# Altium schematic symbol library iot_watch.SchLib: 9 symbols
Pins are listed as number, name and electrical type; pins without a type are passive.

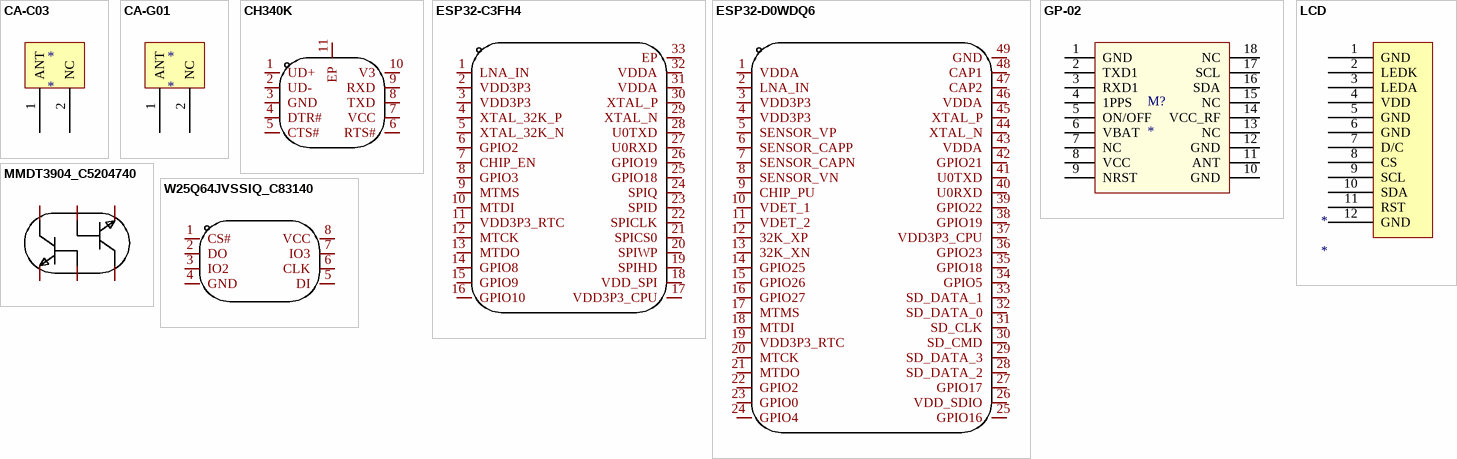
[diagram p0: symbols CA-C03 to W25Q64JVSSIQ_C83140]

## CA-C03
designator *
footprint CA-C03
pins: 1 ANT, 2 NC

## CA-G01
designator *
footprint CA-G01
pins: 1 ANT, 2 NC

## CH340K
designator U?  (value not drawn)
Manufacturer: WCH(南京沁恒); Add into BOM: yes; Name: CH340K; Symbol: CH340K; Device: CH340K; LCSC Part Name: CH340K; Supplier Part: C968586; Manufacturer Part: CH340K; Supplier Footprint: ESOP-10-EP-150mil; JLCPCB Part Class: Extended Part; Datasheet: https://atta.szlcsc.com/upload/public/pdf/source/20200819/C84681_ADBED554CE321879DBD6B1D06488689C.pdf; Supplier: LCSC; Convert to PCB: yes; Applications Function: -; Protocol: -
footprint ESOP-10_L4.9-W3.9-P1.00-LS6.2-BL-EP
3D model ESOP-10_L4.9-W3.9-H1.4-P1.00-LS6.2-BL-EP
pins: 1 UD+, 2 UD-, 3 GND, 4 DTR#, 5 CTS#, 6 RTS#, 7 VCC, 8 TXD, 9 RXD, 10 V3, 11 EP

## ESP32-C3FH4
designator U?  (value not drawn)
Manufacturer: ESPRESSIF(乐鑫); Add into BOM: yes; Name: ESP32-C3FH4; Symbol: ESP32-C3FH4; Device: ESP32-C3FH4; LCSC Part Name: ESP32-C3FH4; Supplier Part: C2858491; Manufacturer Part: ESP32-C3FH4; Supplier Footprint: QFN-32; JLCPCB Part Class: Extended Part; Datasheet: https://atta.szlcsc.com/upload/public/pdf/source/20210726/B8823F05EB5B1ECA99D4F01661A43FA8.pdf; Supplier: LCSC; Convert to PCB: yes
footprint QFN-32_L5.0-W5.0-P0.50-TL-EP3.7
3D model QFN-32_L5.0-W5.0-H0.9-P0.50-TL-EP3.7
pins: 1 LNA_IN, 2 VDD3P3, 3 VDD3P3, 4 XTAL_32K_P, 5 XTAL_32K_N, 6 GPIO2, 7 CHIP_EN, 8 GPIO3, 9 MTMS, 10 MTDI, 11 VDD3P3_RTC, 12 MTCK, 13 MTDO, 14 GPIO8, 15 GPIO9, 16 GPIO10, 17 VDD3P3_CPU, 18 VDD_SPI, 19 SPIHD, 20 SPIWP, 21 SPICS0, 22 SPICLK, 23 SPID, 24 SPIQ, 25 GPIO18, 26 GPIO19, 27 U0RXD, 28 U0TXD, 29 XTAL_N, 30 XTAL_P, 31 VDDA, 32 VDDA, 33 EP

## ESP32-D0WDQ6
designator U?  (value not drawn)
Manufacturer: ESPRESSIF(乐鑫); Add into BOM: yes; Name: ESP32-D0WDQ6; Symbol: ESP32-D0WDQ6; Device: ESP32-D0WDQ6; LCSC Part Name: ESP32-D0WDQ6; Supplier Part: C129733; Manufacturer Part: ESP32-D0WDQ6; Supplier Footprint: QFN-48-EP(6x6); JLCPCB Part Class: Extended Part; Datasheet: https://atta.szlcsc.com/upload/public/pdf/source/20180207/C129733_15179947908541359020.pdf; Supplier: LCSC; Convert to PCB: yes
footprint QFN-48_L6.0-W6.0-P0.40-BL-EP3.8
3D model QFN-48_L6.0-W6.0-P0.40-BL-EP3.8
pins: 1 VDDA, 2 LNA_IN, 3 VDD3P3, 4 VDD3P3, 5 SENSOR_VP, 6 SENSOR_CAPP, 7 SENSOR_CAPN, 8 SENSOR_VN, 9 CHIP_PU, 10 VDET_1, 11 VDET_2, 12 32K_XP, 13 32K_XN, 14 GPIO25, 15 GPIO26, 16 GPIO27, 17 MTMS, 18 MTDI, 19 VDD3P3_RTC, 20 MTCK, 21 MTDO, 22 GPIO2, 23 GPIO0, 24 GPIO4, 25 GPIO16, 26 VDD_SDIO, 27 GPIO17, 28 SD_DATA_2, 29 SD_DATA_3, 30 SD_CMD, 31 SD_CLK, 32 SD_DATA_0, 33 SD_DATA_1, 34 GPIO5, 35 GPIO18, 36 GPIO23, 37 VDD3P3_CPU, 38 GPIO19, 39 GPIO22, 40 U0RXD, 41 U0TXD, 42 GPIO21, 43 VDDA, 44 XTAL_N, 45 XTAL_P, 46 VDDA, 47 CAP2, 48 CAP1, 49 GND

## GP-02
designator M?
footprint GP-02
pins: 1 GND, 2 TXD1, 3 RXD1, 4 1PPS, 5 ON/OFF, 6 VBAT, 7 NC, 8 VCC, 9 NRST, 10 GND, 11 ANT, 12 GND, 13 NC, 14 VCC_RF, 15 NC, 16 SDA, 17 SCL, 18 NC

## LCD
designator *
footprint LCD-FPC-12PIN
pins: 1 GND, 2 LEDK, 3 LEDA, 4 VDD, 5 GND, 6 GND, 7 D/C, 8 CS, 9 SCL, 10 SDA, 11 RST, 12 GND

## MMDT3904_C5204740
designator U?  (value not drawn)
Manufacturer: TWGMC(台湾迪嘉); Add into BOM: yes; Name: MMDT3904; Symbol: MMDT3904_C5204740; Device: MMDT3904_C5204740; LCSC Part Name: MMDT3904; Supplier Part: C5204740; Manufacturer Part: MMDT3904; Supplier Footprint: SOT-363; JLCPCB Part Class: Extended Part; Datasheet: https://atta.szlcsc.com/upload/public/pdf/source/20221019/5C73A5BE2176C860B0C75E749853D8F2.pdf; Supplier: LCSC; Convert to PCB: yes
footprint SOT-363_L2.1-W1.3-P0.65-LS2.3-BL
3D model SOT-363_L2.1-W1.3-P0.65-LS2.3-BL
pins: 1 E, 2 B, 3 C, 4 E, 5 B, 6 C

## W25Q64JVSSIQ_C83140
designator U?  (value not drawn)
Manufacturer: WINBOND(华邦); Add into BOM: yes; Name: W25Q64JVSSIQ; Symbol: W25Q64JVSSIQ; Device: W25Q64JVSSIQ_C83140; LCSC Part Name: W25Q64JVSSIQ; Supplier Part: C83140; Manufacturer Part: W25Q64JVSSIQ; Supplier Footprint: SOP-8-208mil; JLCPCB Part Class: Extended Part; Datasheet: https://atta.szlcsc.com/upload/public/pdf/source/20161110/1478742546019.pdf; Supplier: LCSC; Convert to PCB: yes
footprint SOP-8_L5.3-W5.3-P1.27-LS8.0-BL
3D model SOP-8_L5.2-W5.3-H2.1-LS7.9-P1.27
pins: 1 CS#, 2 DO, 3 IO2, 4 GND, 5 DI, 6 CLK, 7 IO3, 8 VCC